# EAGLE library part HY1* (library relay-custom)
Non-polarized 1 Form C Relay NAiS Source: http://www.mew-europe.com/.. en_ds_61012_0000.pdf
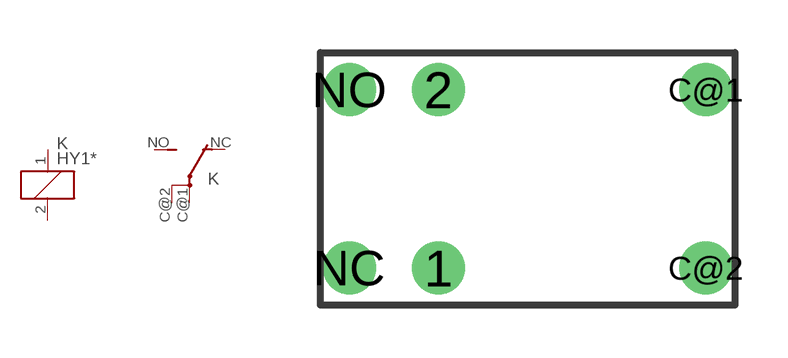
[diagram p62: symbol with the pads of HY; footprint HY]

Designator prefix K; gates 1=K 2=U1

## HY1-1.5V (OC_FARNELL: unknown; OC_NEWARK: unknown), HY1-12V (MF: AROMAT/ MATSUSHITA; MPN: HY1-12V; OC_FARNELL: unknown; OC_NEWARK: 10C6688), HY1-24V (MF: AROMAT/ MATSUSHITA; MPN: HY1-24V; OC_FARNELL: unknown; OC_NEWARK: 10C6689), HY1-3V (MF: AROMAT/ MATSUSHITA; MPN: HY1-3V; OC_FARNELL: unknown; OC_NEWARK: 10C6690), HY1-4.5V (OC_FARNELL: unknown; OC_NEWARK: unknown), HY1-5V (MF: AROMAT/ MATSUSHITA; MPN: HY1-5V; OC_FARNELL: unknown; OC_NEWARK: 10C6692), HY1-6V (MF: AROMAT/ MATSUSHITA; MPN: HY1-6V; OC_FARNELL: unknown; OC_NEWARK: 10C6693), HY1-9V (MF: AROMAT/ MATSUSHITA; MPN: HY1-9V; OC_FARNELL: unknown; OC_NEWARK: 10C6694), HY1Z-1.5V (OC_FARNELL: unknown; OC_NEWARK: unknown), HY1Z-12V (MF: AROMAT/ MATSUSHITA; MPN: HY1Z-12V; OC_FARNELL: unknown; OC_NEWARK: 10C6704), HY1Z-24V (MF: AROMAT/ MATSUSHITA; MPN: HY1Z-24V; OC_FARNELL: unknown; OC_NEWARK: 10C6705), HY1Z-3V (OC_FARNELL: unknown; OC_NEWARK: unknown), HY1Z-4.5V (MF: AROMAT/ MATSUSHITA; MPN: HY1Z-4.5V; OC_FARNELL: unknown; OC_NEWARK: 10C6707), HY1Z-5V (MF: AROMAT/ MATSUSHITA; MPN: HY1Z-5V; OC_FARNELL: unknown; OC_NEWARK: 52F9234), HY1Z-6V (OC_FARNELL: unknown; OC_NEWARK: unknown), HY1Z-9V (MF: AROMAT/ MATSUSHITA; MPN: HY1Z-9V; OC_FARNELL: unknown; OC_NEWARK: 10C6709)  [HY]
1  1:1  pas
2  1:2  pas
C@1  2:P  pas
C@2  2:P  pas
NC  2:O  pas
NO  2:S  pas

## Footprint HY (pad centres in mm)
Non-polarized 1 Form C Relay NAiS Source: http://www.mew-europe.com/.. en_ds_61012_0000.pdf
drill 1: 1 -2.54,-2.54; 2 -2.54,2.54; C@1 5.08,2.54; C@2 5.08,-2.54; NC -5.08,-2.54; NO -5.08,2.54